# Altium schematic symbol library SCH - FUSE - HOLDER 3558.Schlib: 1 symbol
Pins are listed as number, name and electrical type; pins without a type are passive.

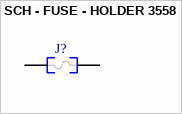
[diagram p0: symbol SCH - FUSE - HOLDER 3558]

## SCH - FUSE - HOLDER 3558
designator J?
footprint FUSE Holder (Keystone)
pins: 1, 2